# EAGLE library part OPT3001DNPR (library OPT3001DNPR)
Optical Sensor Ambient 550nm I²C 6-UDFN Exposed Pad Buy Part <https://snapeda.com/parts/OPT3001DNPR/Texas%20Instruments/view-part/?ref=eda> Check availability <https://pricing.snapeda.com/parts/OPT3001DNPR/Texas%20Instruments/view-part?ref=eda>
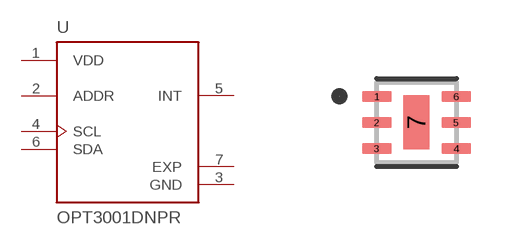
[diagram p0: symbol with the pads of SON65P200X200X65-7N; footprint SON65P200X200X65-7N]

Designator prefix U

## OPT3001DNPR (Availability: In Stock; Description: Digital ambient light sensor (ALS) with high-precision human-eye response; MF: Texas Instruments; MP: OPT3001DNPR; Package: USON-6 Texas Instruments; Price: None; Purchase-URL: https://pricing.snapeda.com/search/part/OPT3001DNPR/?ref=eda)  [SON65P200X200X65-7N]
1  VDD  pwr
2  ADDR  in
3  GND  pwr
4  SCL  in
5  INT  out
6  SDA
7  EXP  pas

## Footprint SON65P200X200X65-7N (pad centres in mm)
smd 0.74 x 0.27: 1 -0.995,0.65; 2 -0.995,0; 3 -0.995,-0.65; 4 0.995,-0.65; 5 0.995,0; 6 0.995,0.65
smd 0.65 x 1.35: 7 0,0